# EAGLE library part KAYO_CS100A (library kxnStandard_IC_Function)
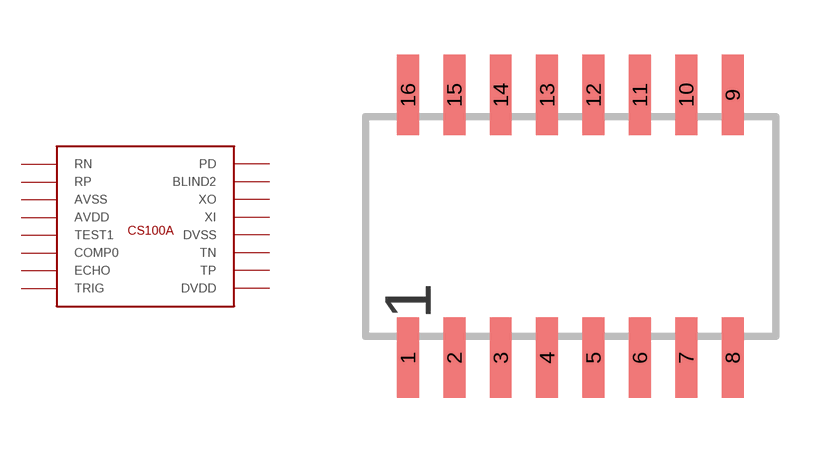
[diagram p4: symbol with the pads of SOP16; footprint SOP16]

Designator prefix -

## KAYO_CS100A (CC_SHOP: CongCo)  [SOP16]
1  P$1_RN
2  P$2_RP
3  P$3_AVSS  pwr
4  P$4_AVDD  pwr
5  P$5_TEST1  out
6  P$6_COMP0  out
7  P$7_ECHO  out
8  P$8_TRIG  in
9  P$9_DVDD  pwr
10  P$10_TP  out
11  P$11_TN  out
12  P$12_DVSS  pwr
13  P$13_XI
14  P$14_XO
15  P$15_BLIND2
16  P$16_PD

## Footprint SOP16 (pad centres in mm)
SMALL OUTLINE PACKAGE
smd 0.6 x 2.2: 1 -4.445,-3.6; 2 -3.175,-3.6; 3 -1.905,-3.6; 4 -0.635,-3.6; 5 0.635,-3.6; 6 1.905,-3.6; 7 3.175,-3.6; 8 4.445,-3.6; 9 4.445,3.6; 10 3.175,3.6; 11 1.905,3.6; 12 0.635,3.6; 13 -0.635,3.6; 14 -1.905,3.6; 15 -3.175,3.6; 16 -4.445,3.6